# Altium footprint library IPC-SM-782 Section 14.2 PBGA-Rectangular.PcbLib: 3 footprints
Each footprint in its own frame and in the unit in brackets; x right, y up, seen from the top. Pads: shape width x height; smd on the part's side, far side on the other; paste and mask are expansions set on the pad; w line width, h text height; cw(c..) or ccw(c..) is an arc to the next point about the centre after c.
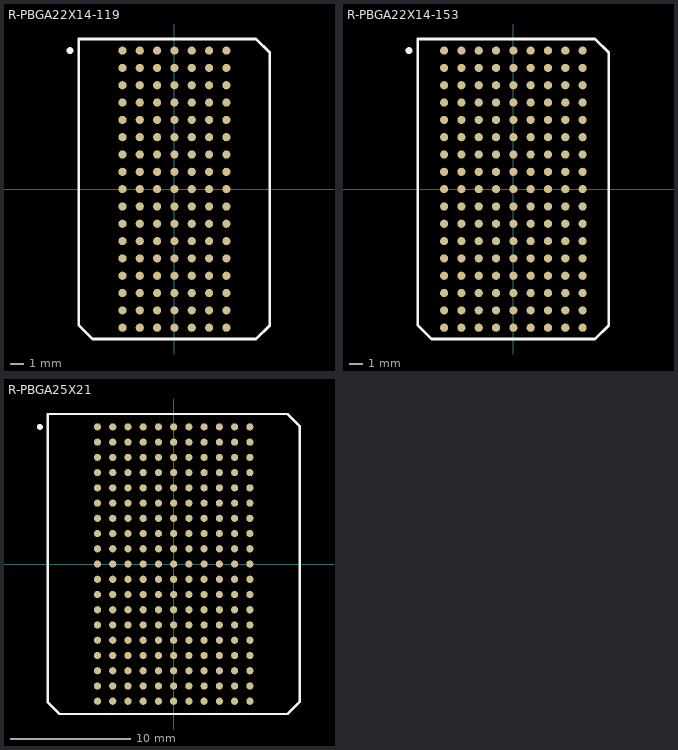
[diagram p0: the footprints below, top view; thin cyan lines are the x and y axes]

## R-PBGA22X14-119 [mm] "BGA; 119 Balls; Body 22 x 14 mm; Pitch 1.27 mm"
height 3.5
pads (119):
  round 0.6 smd: A1(-3.81,10.16) A2(-2.54,10.16) A3(-1.27,10.16) A4(0,10.16) A5(1.27,10.16) A6(2.54,10.16) A7(3.81,10.16) B1(-3.81,8.89) B2(-2.54,8.89) B3(-1.27,8.89) B4(0,8.89) B5(1.27,8.89) B6(2.54,8.89) B7(3.81,8.89) C1(-3.81,7.62) C2(-2.54,7.62) C3(-1.27,7.62) C4(0,7.62) C5(1.27,7.62) C6(2.54,7.62) C7(3.81,7.62) D1(-3.81,6.35) D2(-2.54,6.35) D3(-1.27,6.35) D4(0,6.35) D5(1.27,6.35) D6(2.54,6.35) D7(3.81,6.35) E1(-3.81,5.08) E2(-2.54,5.08) E3(-1.27,5.08) E4(0,5.08) E5(1.27,5.08) E6(2.54,5.08) E7(3.81,5.08) F1(-3.81,3.81) F2(-2.54,3.81) F3(-1.27,3.81) F4(0,3.81) F5(1.27,3.81) F6(2.54,3.81) F7(3.81,3.81) G1(-3.81,2.54) G2(-2.54,2.54) G3(-1.27,2.54) G4(0,2.54) G5(1.27,2.54) G6(2.54,2.54) G7(3.81,2.54) H1(-3.81,1.27) H2(-2.54,1.27) H3(-1.27,1.27) H4(0,1.27) H5(1.27,1.27) H6(2.54,1.27) H7(3.81,1.27) J1(-3.81,0) J2(-2.54,0) J3(-1.27,0) J4(0,0) J5(1.27,0) J6(2.54,0) J7(3.81,0) K1(-3.81,-1.27) K2(-2.54,-1.27) K3(-1.27,-1.27) K4(0,-1.27) K5(1.27,-1.27) K6(2.54,-1.27) K7(3.81,-1.27) L1(-3.81,-2.54) L2(-2.54,-2.54) L3(-1.27,-2.54) L4(0,-2.54) L5(1.27,-2.54) L6(2.54,-2.54) L7(3.81,-2.54) M1(-3.81,-3.81) M2(-2.54,-3.81) M3(-1.27,-3.81) M4(0,-3.81) M5(1.27,-3.81) M6(2.54,-3.81) M7(3.81,-3.81) N1(-3.81,-5.08) N2(-2.54,-5.08) N3(-1.27,-5.08) N4(0,-5.08) N5(1.27,-5.08) N6(2.54,-5.08) N7(3.81,-5.08) P1(-3.81,-6.35) P2(-2.54,-6.35) P3(-1.27,-6.35) P4(0,-6.35) P5(1.27,-6.35) P6(2.54,-6.35) P7(3.81,-6.35) R1(-3.81,-7.62) R2(-2.54,-7.62) R3(-1.27,-7.62) R4(0,-7.62) R5(1.27,-7.62) R6(2.54,-7.62) R7(3.81,-7.62) T1(-3.81,-8.89) T2(-2.54,-8.89) T3(-1.27,-8.89) T4(0,-8.89) T5(1.27,-8.89) T6(2.54,-8.89) T7(3.81,-8.89) U1(-3.81,-10.16) U2(-2.54,-10.16) U3(-1.27,-10.16) U4(0,-10.16) U5(1.27,-10.16) U6(2.54,-10.16) U7(3.81,-10.16)
Top Overlay:
  circle w0.25: c-7.66,10.16 r0.125
  lines w0.2: -7.01,-9.99 -7.01,11.01 5.99,11.01 6.99,10.01 6.99,-9.99 5.99,-10.99 -6.01,-10.99 -7.01,-9.99

## R-PBGA22X14-153 [mm] "BGA; 153 Balls; Body 22 x 14 mm; Pitch 1.27 mm"
height 3.5
pads (153):
  round 0.6 smd: A1(-5.08,10.16) A2(-3.81,10.16) A3(-2.54,10.16) A4(-1.27,10.16) A5(0,10.16) A6(1.27,10.16) A7(2.54,10.16) A8(3.81,10.16) A9(5.08,10.16) B1(-5.08,8.89) B2(-3.81,8.89) B3(-2.54,8.89) B4(-1.27,8.89) B5(0,8.89) B6(1.27,8.89) B7(2.54,8.89) B8(3.81,8.89) B9(5.08,8.89) C1(-5.08,7.62) C2(-3.81,7.62) C3(-2.54,7.62) C4(-1.27,7.62) C5(0,7.62) C6(1.27,7.62) C7(2.54,7.62) C8(3.81,7.62) C9(5.08,7.62) D1(-5.08,6.35) D2(-3.81,6.35) D3(-2.54,6.35) D4(-1.27,6.35) D5(0,6.35) D6(1.27,6.35) D7(2.54,6.35) D8(3.81,6.35) D9(5.08,6.35) E1(-5.08,5.08) E2(-3.81,5.08) E3(-2.54,5.08) E4(-1.27,5.08) E5(0,5.08) E6(1.27,5.08) E7(2.54,5.08) E8(3.81,5.08) E9(5.08,5.08) F1(-5.08,3.81) F2(-3.81,3.81) F3(-2.54,3.81) F4(-1.27,3.81) F5(0,3.81) F6(1.27,3.81) F7(2.54,3.81) F8(3.81,3.81) F9(5.08,3.81) G1(-5.08,2.54) G2(-3.81,2.54) G3(-2.54,2.54) G4(-1.27,2.54) G5(0,2.54) G6(1.27,2.54) G7(2.54,2.54) G8(3.81,2.54) G9(5.08,2.54) H1(-5.08,1.27) H2(-3.81,1.27) H3(-2.54,1.27) H4(-1.27,1.27) H5(0,1.27) H6(1.27,1.27) H7(2.54,1.27) H8(3.81,1.27) H9(5.08,1.27) J1(-5.08,0) J2(-3.81,0) J3(-2.54,0) J4(-1.27,0) J5(0,0) J6(1.27,0) J7(2.54,0) J8(3.81,0) J9(5.08,0) K1(-5.08,-1.27) K2(-3.81,-1.27) K3(-2.54,-1.27) K4(-1.27,-1.27) K5(0,-1.27) K6(1.27,-1.27) K7(2.54,-1.27) K8(3.81,-1.27) K9(5.08,-1.27) L1(-5.08,-2.54) L2(-3.81,-2.54) L3(-2.54,-2.54) L4(-1.27,-2.54) L5(0,-2.54) L6(1.27,-2.54) L7(2.54,-2.54) L8(3.81,-2.54) L9(5.08,-2.54) M1(-5.08,-3.81) M2(-3.81,-3.81) M3(-2.54,-3.81) M4(-1.27,-3.81) M5(0,-3.81) M6(1.27,-3.81) M7(2.54,-3.81) M8(3.81,-3.81) M9(5.08,-3.81) N1(-5.08,-5.08) N2(-3.81,-5.08) N3(-2.54,-5.08) N4(-1.27,-5.08) N5(0,-5.08) N6(1.27,-5.08) N7(2.54,-5.08) N8(3.81,-5.08) N9(5.08,-5.08) P1(-5.08,-6.35) P2(-3.81,-6.35) P3(-2.54,-6.35) P4(-1.27,-6.35) P5(0,-6.35) P6(1.27,-6.35) P7(2.54,-6.35) P8(3.81,-6.35) P9(5.08,-6.35) R1(-5.08,-7.62) R2(-3.81,-7.62) R3(-2.54,-7.62) R4(-1.27,-7.62) R5(0,-7.62) R6(1.27,-7.62) R7(2.54,-7.62) R8(3.81,-7.62) R9(5.08,-7.62) T1(-5.08,-8.89) T2(-3.81,-8.89) T3(-2.54,-8.89) T4(-1.27,-8.89) T5(0,-8.89) T6(1.27,-8.89) T7(2.54,-8.89) T8(3.81,-8.89) T9(5.08,-8.89) U1(-5.08,-10.16) U2(-3.81,-10.16) U3(-2.54,-10.16) U4(-1.27,-10.16) U5(0,-10.16) U6(1.27,-10.16) U7(2.54,-10.16) U8(3.81,-10.16) U9(5.08,-10.16)
Top Overlay:
  circle w0.25: c-7.655,10.16 r0.125
  lines w0.2: -7.005,-9.99 -7.005,11.01 5.995,11.01 6.995,10.01 6.995,-9.99 5.995,-10.99 -6.005,-10.99 -7.005,-9.99

## R-PBGA25X21 [mm] "BGA; 209 Balls; Body 25 x 21 mm; Pitch 1.27 mm"
height 3.5
pads (209):
  round 0.6 smd: A1(-6.35,11.43) A2(-5.08,11.43) A3(-3.81,11.43) A4(-2.54,11.43) A5(-1.27,11.43) A6(0,11.43) A7(1.27,11.43) A8(2.54,11.43) A9(3.81,11.43) A10(5.08,11.43) A11(6.35,11.43) B1(-6.35,10.16) B2(-5.08,10.16) B3(-3.81,10.16) B4(-2.54,10.16) B5(-1.27,10.16) B6(0,10.16) B7(1.27,10.16) B8(2.54,10.16) B9(3.81,10.16) B10(5.08,10.16) B11(6.35,10.16) C1(-6.35,8.89) C2(-5.08,8.89) C3(-3.81,8.89) C4(-2.54,8.89) C5(-1.27,8.89) C6(0,8.89) C7(1.27,8.89) C8(2.54,8.89) C9(3.81,8.89) C10(5.08,8.89) C11(6.35,8.89) D1(-6.35,7.62) D2(-5.08,7.62) D3(-3.81,7.62) D4(-2.54,7.62) D5(-1.27,7.62) D6(0,7.62) D7(1.27,7.62) D8(2.54,7.62) D9(3.81,7.62) D10(5.08,7.62) D11(6.35,7.62) E1(-6.35,6.35) E2(-5.08,6.35) E3(-3.81,6.35) E4(-2.54,6.35) E5(-1.27,6.35) E6(0,6.35) E7(1.27,6.35) E8(2.54,6.35) E9(3.81,6.35) E10(5.08,6.35) E11(6.35,6.35) F1(-6.35,5.08) F2(-5.08,5.08) F3(-3.81,5.08) F4(-2.54,5.08) F5(-1.27,5.08) F6(0,5.08) F7(1.27,5.08) F8(2.54,5.08) F9(3.81,5.08) F10(5.08,5.08) F11(6.35,5.08) G1(-6.35,3.81) G2(-5.08,3.81) G3(-3.81,3.81) G4(-2.54,3.81) G5(-1.27,3.81) G6(0,3.81) G7(1.27,3.81) G8(2.54,3.81) G9(3.81,3.81) G10(5.08,3.81) G11(6.35,3.81) H1(-6.35,2.54) H2(-5.08,2.54) H3(-3.81,2.54) H4(-2.54,2.54) H5(-1.27,2.54) H6(0,2.54) H7(1.27,2.54) H8(2.54,2.54) H9(3.81,2.54) H10(5.08,2.54) H11(6.35,2.54) J1(-6.35,1.27) J2(-5.08,1.27) J3(-3.81,1.27) J4(-2.54,1.27) J5(-1.27,1.27) J6(0,1.27) J7(1.27,1.27) J8(2.54,1.27) J9(3.81,1.27) J10(5.08,1.27) J11(6.35,1.27) K1(-6.35,0) K2(-5.08,0) K3(-3.81,0) K4(-2.54,0) K5(-1.27,0) K6(0,0) K7(1.27,0) K8(2.54,0) K9(3.81,0) K10(5.08,0) K11(6.35,0) L1(-6.35,-1.27) L2(-5.08,-1.27) L3(-3.81,-1.27) L4(-2.54,-1.27) L5(-1.27,-1.27) L6(0,-1.27) L7(1.27,-1.27) L8(2.54,-1.27) L9(3.81,-1.27) L10(5.08,-1.27) L11(6.35,-1.27) M1(-6.35,-2.54) M2(-5.08,-2.54) M3(-3.81,-2.54) M4(-2.54,-2.54) M5(-1.27,-2.54) M6(0,-2.54) M7(1.27,-2.54) M8(2.54,-2.54) M9(3.81,-2.54) M10(5.08,-2.54) M11(6.35,-2.54) N1(-6.35,-3.81) N2(-5.08,-3.81) N3(-3.81,-3.81) N4(-2.54,-3.81) N5(-1.27,-3.81) N6(0,-3.81) N7(1.27,-3.81) N8(2.54,-3.81) N9(3.81,-3.81) N10(5.08,-3.81) N11(6.35,-3.81) P1(-6.35,-5.08) P2(-5.08,-5.08) P3(-3.81,-5.08) P4(-2.54,-5.08) P5(-1.27,-5.08) P6(0,-5.08) P7(1.27,-5.08) P8(2.54,-5.08) P9(3.81,-5.08) P10(5.08,-5.08) P11(6.35,-5.08) R1(-6.35,-6.35) R2(-5.08,-6.35) R3(-3.81,-6.35) R4(-2.54,-6.35) R5(-1.27,-6.35) R6(0,-6.35) R7(1.27,-6.35) R8(2.54,-6.35) R9(3.81,-6.35) R10(5.08,-6.35) R11(6.35,-6.35) T1(-6.35,-7.62) T2(-5.08,-7.62) T3(-3.81,-7.62) T4(-2.54,-7.62) T5(-1.27,-7.62) T6(0,-7.62) T7(1.27,-7.62) T8(2.54,-7.62) T9(3.81,-7.62) T10(5.08,-7.62) T11(6.35,-7.62) U1(-6.35,-8.89) U2(-5.08,-8.89) U3(-3.81,-8.89) U4(-2.54,-8.89) U5(-1.27,-8.89) U6(0,-8.89) U7(1.27,-8.89) U8(2.54,-8.89) U9(3.81,-8.89) U10(5.08,-8.89) U11(6.35,-8.89) V1(-6.35,-10.16) V2(-5.08,-10.16) V3(-3.81,-10.16) V4(-2.54,-10.16) V5(-1.27,-10.16) V6(0,-10.16) V7(1.27,-10.16) V8(2.54,-10.16) V9(3.81,-10.16) V10(5.08,-10.16) V11(6.35,-10.16) W1(-6.35,-11.43) W2(-5.08,-11.43) W3(-3.81,-11.43) W4(-2.54,-11.43) W5(-1.27,-11.43) W6(0,-11.43) W7(1.27,-11.43) W8(2.54,-11.43) W9(3.81,-11.43) W10(5.08,-11.43) W11(6.35,-11.43)
Top Overlay:
  circle w0.25: c-11.15,11.43 r0.125
  lines w0.2: -10.5,-11.495 -9.5,-12.495 9.5,-12.495 10.5,-11.495 10.5,11.505 9.5,12.505 -10.5,12.505 -10.5,-11.495